# EAGLE library part HDMI-A-T (library CONNECTORS)
Horizonal HDMI type "A" jack
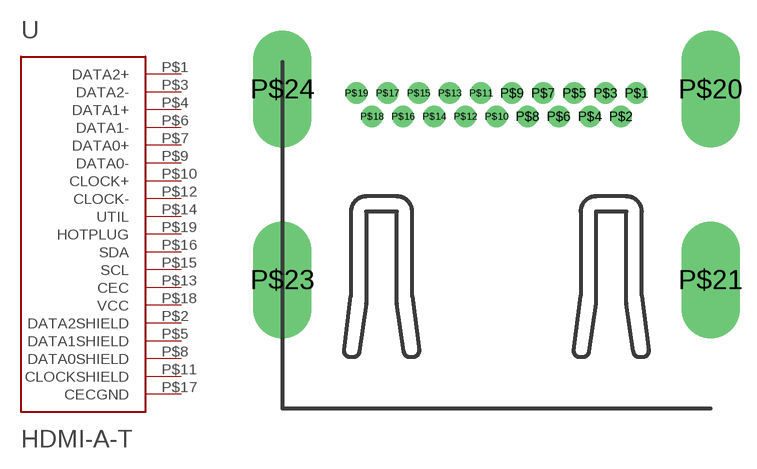
[diagram p1: symbol with the pads of HDMI_A-T; footprint HDMI_A-T]

Designator prefix -

## HDMI-A-T  [HDMI_A-T]
P$1  DATA2+
P$2  DATA2SHIELD
P$3  DATA2-
P$4  DATA1+
P$5  DATA1SHIELD
P$6  DATA1-
P$7  DATA0+
P$8  DATA0SHIELD
P$9  DATA0-
P$10  CLOCK+
P$11  CLOCKSHIELD
P$12  CLOCK-
P$13  CEC
P$14  UTIL
P$15  SCL
P$16  SDA
P$17  CECGND
P$18  VCC
P$19  HOTPLUG

## Footprint HDMI_A-T (pad centres in mm)
drill 0.2: P$1 4.572,4.445; P$2 4.064,3.683; P$3 3.556,4.445; P$4 3.048,3.683; P$5 2.54,4.445; P$6 2.032,3.683; P$7 1.524,4.445; P$8 1.016,3.683; P$9 0.508,4.445; P$10 0,3.683; P$11 -0.508,4.445; P$12 -1.016,3.683; P$13 -1.524,4.445; P$14 -2.032,3.683; P$15 -2.54,4.445; P$16 -3.048,3.683; P$17 -3.556,4.445; P$18 -4.064,3.683; P$19 -4.572,4.445
drill 1.27 pad 1.524 long: P$20 6.985,4.572; P$21 6.985,-1.651; P$23 -6.985,-1.651; P$24 -6.985,4.572